# EAGLE library part FMC-HPC400-FPGA (library samtec-fmc)
ASP-134488-01 FMC Connector, lead free, (HPC), 400 I/O, male 10 mm ASP-134602-01 FMC Connector, lead free, (HPC), 400 I/O, male 8.50 mm
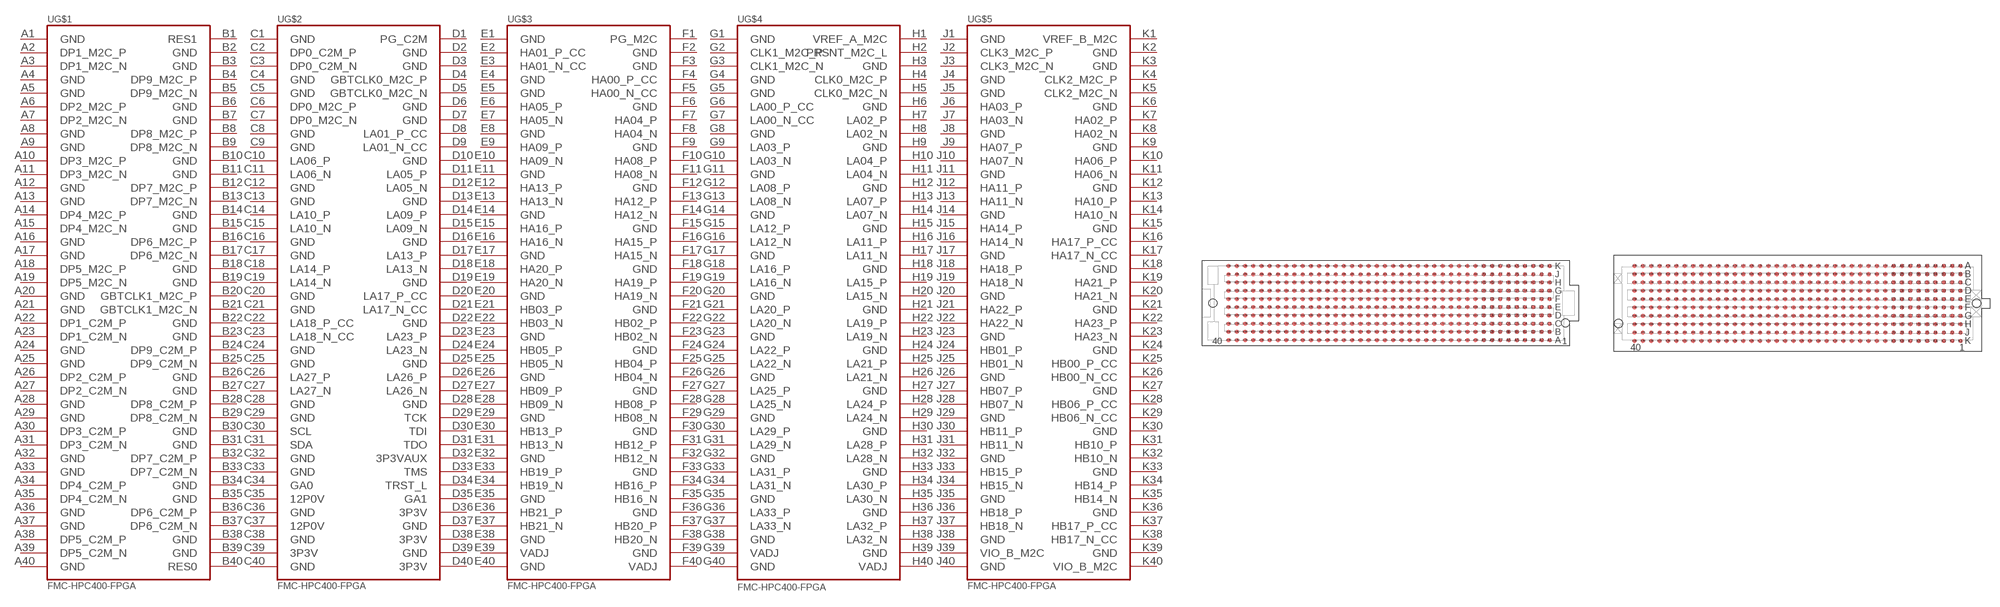
[diagram p2: symbol with the pads of ASP-134486-01; footprints ASP-134486-01, ASP-134602-01]

Designator prefix -; gates G$1=BANK-80P-AB-FPGA G$2=BANK-80P-CD-FPGA G$3=BANK-80P-EF-FPGA G$4=BANK-80P-GH-FPGA G$5=BANK-80P-JK-FPGA

## FMC-HPC400-FPGA-FEMALE  [ASP-134486-01]
A1  G$1:GND
A2  G$1:DP1_M2C_P
A3  G$1:DP1_M2C_N
A4  G$1:GND
A5  G$1:GND
A6  G$1:DP2_M2C_P
A7  G$1:DP2_M2C_N
A8  G$1:GND
A9  G$1:GND
A10  G$1:DP3_M2C_P
A11  G$1:DP3_M2C_N
A12  G$1:GND
A13  G$1:GND
A14  G$1:DP4_M2C_P
A15  G$1:DP4_M2C_N
A16  G$1:GND
A17  G$1:GND
A18  G$1:DP5_M2C_P
A19  G$1:DP5_M2C_N
A20  G$1:GND
A21  G$1:GND
A22  G$1:DP1_C2M_P
A23  G$1:DP1_C2M_N
A24  G$1:GND
A25  G$1:GND
A26  G$1:DP2_C2M_P
A27  G$1:DP2_C2M_N
A28  G$1:GND
A29  G$1:GND
A30  G$1:DP3_C2M_P
A31  G$1:DP3_C2M_N
A32  G$1:GND
A33  G$1:GND
A34  G$1:DP4_C2M_P
A35  G$1:DP4_C2M_N
A36  G$1:GND
A37  G$1:GND
A38  G$1:DP5_C2M_P
A39  G$1:DP5_C2M_N
A40  G$1:GND
B1  G$1:RES1
B2  G$1:GND
B3  G$1:GND
B4  G$1:DP9_M2C_P
B5  G$1:DP9_M2C_N
B6  G$1:GND
B7  G$1:GND
B8  G$1:DP8_M2C_P
B9  G$1:DP8_M2C_N
B10  G$1:GND
B11  G$1:GND
B12  G$1:DP7_M2C_P
B13  G$1:DP7_M2C_N
B14  G$1:GND
B15  G$1:GND
B16  G$1:DP6_M2C_P
B17  G$1:DP6_M2C_N
B18  G$1:GND
B19  G$1:GND
B20  G$1:GBTCLK1_M2C_P
B21  G$1:GBTCLK1_M2C_N
B22  G$1:GND
B23  G$1:GND
B24  G$1:DP9_C2M_P
B25  G$1:DP9_C2M_N
B26  G$1:GND
B27  G$1:GND
B28  G$1:DP8_C2M_P
B29  G$1:DP8_C2M_N
B30  G$1:GND
B31  G$1:GND
B32  G$1:DP7_C2M_P
B33  G$1:DP7_C2M_N
B34  G$1:GND
B35  G$1:GND
B36  G$1:DP6_C2M_P
B37  G$1:DP6_C2M_N
B38  G$1:GND
B39  G$1:GND
B40  G$1:RES0
C1  G$2:GND
C2  G$2:DP0_C2M_P
C3  G$2:DP0_C2M_N
C4  G$2:GND
C5  G$2:GND
C6  G$2:DP0_M2C_P
C7  G$2:DP0_M2C_N
C8  G$2:GND
C9  G$2:GND
C10  G$2:LA06_P
C11  G$2:LA06_N
C12  G$2:GND
C13  G$2:GND
C14  G$2:LA10_P
C15  G$2:LA10_N
C16  G$2:GND
C17  G$2:GND
C18  G$2:LA14_P
C19  G$2:LA14_N
C20  G$2:GND
C21  G$2:GND
C22  G$2:LA18_P_CC
C23  G$2:LA18_N_CC
C24  G$2:GND
C25  G$2:GND
C26  G$2:LA27_P
C27  G$2:LA27_N
C28  G$2:GND
C29  G$2:GND
C30  G$2:SCL
C31  G$2:SDA
C32  G$2:GND
C33  G$2:GND
C34  G$2:GA0
C35  G$2:12P0V
C36  G$2:GND
C37  G$2:12P0V
C38  G$2:GND
C39  G$2:3P3V
C40  G$2:GND
D1  G$2:PG_C2M
D2  G$2:GND
D3  G$2:GND
D4  G$2:GBTCLK0_M2C_P
D5  G$2:GBTCLK0_M2C_N
D6  G$2:GND
D7  G$2:GND
D8  G$2:LA01_P_CC
D9  G$2:LA01_N_CC
D10  G$2:GND
D11  G$2:LA05_P
D12  G$2:LA05_N
D13  G$2:GND
D14  G$2:LA09_P
D15  G$2:LA09_N
D16  G$2:GND
D17  G$2:LA13_P
D18  G$2:LA13_N
D19  G$2:GND
D20  G$2:LA17_P_CC
D21  G$2:LA17_N_CC
D22  G$2:GND
D23  G$2:LA23_P
D24  G$2:LA23_N
D25  G$2:GND
D26  G$2:LA26_P
D27  G$2:LA26_N
D28  G$2:GND
D29  G$2:TCK
D30  G$2:TDI
D31  G$2:TDO
D32  G$2:3P3VAUX
D33  G$2:TMS
D34  G$2:TRST_L
D35  G$2:GA1
D36  G$2:3P3V
D37  G$2:GND
D38  G$2:3P3V
D39  G$2:GND
D40  G$2:3P3V
E1  G$3:GND
E2  G$3:HA01_P_CC
E3  G$3:HA01_N_CC
E4  G$3:GND
E5  G$3:GND
E6  G$3:HA05_P
E7  G$3:HA05_N
E8  G$3:GND
E9  G$3:HA09_P
E10  G$3:HA09_N
E11  G$3:GND
E12  G$3:HA13_P
E13  G$3:HA13_N
E14  G$3:GND
E15  G$3:HA16_P
E16  G$3:HA16_N
E17  G$3:GND
E18  G$3:HA20_P
E19  G$3:HA20_N
E20  G$3:GND
E21  G$3:HB03_P
E22  G$3:HB03_N
E23  G$3:GND
E24  G$3:HB05_P
E25  G$3:HB05_N
E26  G$3:GND
E27  G$3:HB09_P
E28  G$3:HB09_N
E29  G$3:GND
E30  G$3:HB13_P
E31  G$3:HB13_N
E32  G$3:GND
E33  G$3:HB19_P
E34  G$3:HB19_N
E35  G$3:GND
E36  G$3:HB21_P
E37  G$3:HB21_N
E38  G$3:GND
E39  G$3:VADJ
E40  G$3:GND
F1  G$3:PG_M2C
F2  G$3:GND
F3  G$3:GND
F4  G$3:HA00_P_CC
F5  G$3:HA00_N_CC
F6  G$3:GND
F7  G$3:HA04_P
F8  G$3:HA04_N
F9  G$3:GND
F10  G$3:HA08_P
F11  G$3:HA08_N
F12  G$3:GND
F13  G$3:HA12_P
F14  G$3:HA12_N
F15  G$3:GND
F16  G$3:HA15_P
F17  G$3:HA15_N
F18  G$3:GND
F19  G$3:HA19_P
F20  G$3:HA19_N
F21  G$3:GND
F22  G$3:HB02_P
F23  G$3:HB02_N
F24  G$3:GND
F25  G$3:HB04_P
F26  G$3:HB04_N
F27  G$3:GND
F28  G$3:HB08_P
F29  G$3:HB08_N
F30  G$3:GND
F31  G$3:HB12_P
F32  G$3:HB12_N
F33  G$3:GND
F34  G$3:HB16_P
F35  G$3:HB16_N
F36  G$3:GND
F37  G$3:HB20_P
F38  G$3:HB20_N
F39  G$3:GND
F40  G$3:VADJ
G1  G$4:GND
G2  G$4:CLK1_M2C_P
G3  G$4:CLK1_M2C_N
G4  G$4:GND
G5  G$4:GND
G6  G$4:LA00_P_CC
G7  G$4:LA00_N_CC
G8  G$4:GND
G9  G$4:LA03_P
G10  G$4:LA03_N
G11  G$4:GND
G12  G$4:LA08_P
G13  G$4:LA08_N
G14  G$4:GND
G15  G$4:LA12_P
G16  G$4:LA12_N
G17  G$4:GND
G18  G$4:LA16_P
G19  G$4:LA16_N
G20  G$4:GND
G21  G$4:LA20_P
G22  G$4:LA20_N
G23  G$4:GND
G24  G$4:LA22_P
G25  G$4:LA22_N
G26  G$4:GND
G27  G$4:LA25_P
G28  G$4:LA25_N
G29  G$4:GND
G30  G$4:LA29_P
G31  G$4:LA29_N
G32  G$4:GND
G33  G$4:LA31_P
G34  G$4:LA31_N
G35  G$4:GND
G36  G$4:LA33_P
G37  G$4:LA33_N
G38  G$4:GND
G39  G$4:VADJ
G40  G$4:GND
H1  G$4:VREF_A_M2C
H2  G$4:PRSNT_M2C_L
H3  G$4:GND
H4  G$4:CLK0_M2C_P
H5  G$4:CLK0_M2C_N
H6  G$4:GND
H7  G$4:LA02_P
H8  G$4:LA02_N
H9  G$4:GND
H10  G$4:LA04_P
H11  G$4:LA04_N
H12  G$4:GND
H13  G$4:LA07_P
H14  G$4:LA07_N
H15  G$4:GND
H16  G$4:LA11_P
H17  G$4:LA11_N
H18  G$4:GND
H19  G$4:LA15_P
H20  G$4:LA15_N
H21  G$4:GND
H22  G$4:LA19_P
H23  G$4:LA19_N
H24  G$4:GND
H25  G$4:LA21_P
H26  G$4:LA21_N
H27  G$4:GND
H28  G$4:LA24_P
H29  G$4:LA24_N
H30  G$4:GND
H31  G$4:LA28_P
H32  G$4:LA28_N
H33  G$4:GND
H34  G$4:LA30_P
H35  G$4:LA30_N
H36  G$4:GND
H37  G$4:LA32_P
H38  G$4:LA32_N
H39  G$4:GND
H40  G$4:VADJ
J1  G$5:GND
J2  G$5:CLK3_M2C_P
J3  G$5:CLK3_M2C_N
J4  G$5:GND
J5  G$5:GND
J6  G$5:HA03_P
J7  G$5:HA03_N
J8  G$5:GND
J9  G$5:HA07_P
J10  G$5:HA07_N
J11  G$5:GND
J12  G$5:HA11_P
J13  G$5:HA11_N
J14  G$5:GND
J15  G$5:HA14_P
J16  G$5:HA14_N
J17  G$5:GND
J18  G$5:HA18_P
J19  G$5:HA18_N
J20  G$5:GND
J21  G$5:HA22_P
J22  G$5:HA22_N
J23  G$5:GND
J24  G$5:HB01_P
J25  G$5:HB01_N
J26  G$5:GND
J27  G$5:HB07_P
J28  G$5:HB07_N
J29  G$5:GND
J30  G$5:HB11_P
J31  G$5:HB11_N
J32  G$5:GND
J33  G$5:HB15_P
J34  G$5:HB15_N
J35  G$5:GND
J36  G$5:HB18_P
J37  G$5:HB18_N
J38  G$5:GND
J39  G$5:VIO_B_M2C
J40  G$5:GND
K1  G$5:VREF_B_M2C
K2  G$5:GND
K3  G$5:GND
K4  G$5:CLK2_M2C_P
K5  G$5:CLK2_M2C_N
K6  G$5:GND
K7  G$5:HA02_P
K8  G$5:HA02_N
K9  G$5:GND
K10  G$5:HA06_P
K11  G$5:HA06_N
K12  G$5:GND
K13  G$5:HA10_P
K14  G$5:HA10_N
K15  G$5:GND
K16  G$5:HA17_P_CC
K17  G$5:HA17_N_CC
K18  G$5:GND
K19  G$5:HA21_P
K20  G$5:HA21_N
K21  G$5:GND
K22  G$5:HA23_P
K23  G$5:HA23_N
K24  G$5:GND
K25  G$5:HB00_P_CC
K26  G$5:HB00_N_CC
K27  G$5:GND
K28  G$5:HB06_P_CC
K29  G$5:HB06_N_CC
K30  G$5:GND
K31  G$5:HB10_P
K32  G$5:HB10_N
K33  G$5:GND
K34  G$5:HB14_P
K35  G$5:HB14_N
K36  G$5:GND
K37  G$5:HB17_P_CC
K38  G$5:HB17_N_CC
K39  G$5:GND
K40  G$5:VIO_B_M2C

## FMC-HPC400-FPGA-MALE  [ASP-134602-01]
Pads as for ASP-134486-01

## Footprint ASP-134486-01 (pad centres in mm)
smd 0.635 x 0.635: A1 24.765,-5.715; A2 23.495,-5.715; A3 22.225,-5.715; A4 20.955,-5.715; A5 19.685,-5.715; A6 18.415,-5.715; A7 17.145,-5.715; A8 15.875,-5.715; A9 14.605,-5.715; A10 13.335,-5.715; A11 12.065,-5.715; A12 10.795,-5.715; A13 9.525,-5.715; A14 8.255,-5.715; A15 6.985,-5.715; A16 5.715,-5.715; A17 4.445,-5.715; A18 3.175,-5.715; A19 1.905,-5.715; A20 0.635,-5.715; A21 -0.635,-5.715; A22 -1.905,-5.715; A23 -3.175,-5.715; A24 -4.445,-5.715; A25 -5.715,-5.715; A26 -6.985,-5.715; A27 -8.255,-5.715; A28 -9.525,-5.715; A29 -10.795,-5.715; A30 -12.065,-5.715; A31 -13.335,-5.715; A32 -14.605,-5.715; A33 -15.875,-5.715; A34 -17.145,-5.715; A35 -18.415,-5.715; A36 -19.685,-5.715; A37 -20.955,-5.715; A38 -22.225,-5.715; A39 -23.495,-5.715; A40 -24.765,-5.715; B1 24.765,-4.445; B2 23.495,-4.445; B3 22.225,-4.445; B4 20.955,-4.445; B5 19.685,-4.445; B6 18.415,-4.445; B7 17.145,-4.445; B8 15.875,-4.445; B9 14.605,-4.445; B10 13.335,-4.445; B11 12.065,-4.445; B12 10.795,-4.445; B13 9.525,-4.445; B14 8.255,-4.445; B15 6.985,-4.445; B16 5.715,-4.445; B17 4.445,-4.445; B18 3.175,-4.445; B19 1.905,-4.445; B20 0.635,-4.445; B21 -0.635,-4.445; B22 -1.905,-4.445; B23 -3.175,-4.445; B24 -4.445,-4.445; B25 -5.715,-4.445; B26 -6.985,-4.445; B27 -8.255,-4.445; B28 -9.525,-4.445; B29 -10.795,-4.445; B30 -12.065,-4.445; B31 -13.335,-4.445; B32 -14.605,-4.445; B33 -15.875,-4.445; B34 -17.145,-4.445; B35 -18.415,-4.445; B36 -19.685,-4.445; B37 -20.955,-4.445; B38 -22.225,-4.445; B39 -23.495,-4.445; B40 -24.765,-4.445; C1 24.765,-3.175; C2 23.495,-3.175; C3 22.225,-3.175; C4 20.955,-3.175; C5 19.685,-3.175; C6 18.415,-3.175; C7 17.145,-3.175; C8 15.875,-3.175; C9 14.605,-3.175; C10 13.335,-3.175; C11 12.065,-3.175; C12 10.795,-3.175; C13 9.525,-3.175; C14 8.255,-3.175; C15 6.985,-3.175; C16 5.715,-3.175; C17 4.445,-3.175; C18 3.175,-3.175; C19 1.905,-3.175; C20 0.635,-3.175; C21 -0.635,-3.175; C22 -1.905,-3.175; C23 -3.175,-3.175; C24 -4.445,-3.175; C25 -5.715,-3.175; C26 -6.985,-3.175; C27 -8.255,-3.175; C28 -9.525,-3.175; C29 -10.795,-3.175; C30 -12.065,-3.175; C31 -13.335,-3.175; C32 -14.605,-3.175; C33 -15.875,-3.175; C34 -17.145,-3.175; C35 -18.415,-3.175; C36 -19.685,-3.175; C37 -20.955,-3.175; C38 -22.225,-3.175; C39 -23.495,-3.175; C40 -24.765,-3.175; D1 24.765,-1.905; D2 23.495,-1.905; D3 22.225,-1.905; D4 20.955,-1.905; D5 19.685,-1.905; D6 18.415,-1.905; D7 17.145,-1.905; D8 15.875,-1.905; D9 14.605,-1.905; D10 13.335,-1.905; D11 12.065,-1.905; D12 10.795,-1.905; D13 9.525,-1.905; D14 8.255,-1.905; D15 6.985,-1.905; D16 5.715,-1.905; D17 4.445,-1.905; D18 3.175,-1.905; D19 1.905,-1.905; D20 0.635,-1.905; D21 -0.635,-1.905; D22 -1.905,-1.905; D23 -3.175,-1.905; D24 -4.445,-1.905; D25 -5.715,-1.905; D26 -6.985,-1.905; D27 -8.255,-1.905; D28 -9.525,-1.905; D29 -10.795,-1.905; D30 -12.065,-1.905; D31 -13.335,-1.905; D32 -14.605,-1.905; D33 -15.875,-1.905; D34 -17.145,-1.905; D35 -18.415,-1.905; D36 -19.685,-1.905; D37 -20.955,-1.905; D38 -22.225,-1.905; D39 -23.495,-1.905; D40 -24.765,-1.905; E1 24.765,-0.635; E2 23.495,-0.635; E3 22.225,-0.635; E4 20.955,-0.635; E5 19.685,-0.635; E6 18.415,-0.635; E7 17.145,-0.635; E8 15.875,-0.635; E9 14.605,-0.635; E10 13.335,-0.635; E11 12.065,-0.635; E12 10.795,-0.635; E13 9.525,-0.635; E14 8.255,-0.635; E15 6.985,-0.635; E16 5.715,-0.635; E17 4.445,-0.635; E18 3.175,-0.635; E19 1.905,-0.635; E20 0.635,-0.635; E21 -0.635,-0.635; E22 -1.905,-0.635; E23 -3.175,-0.635; E24 -4.445,-0.635; E25 -5.715,-0.635; E26 -6.985,-0.635; E27 -8.255,-0.635; E28 -9.525,-0.635; E29 -10.795,-0.635; E30 -12.065,-0.635; E31 -13.335,-0.635; E32 -14.605,-0.635; E33 -15.875,-0.635; E34 -17.145,-0.635; E35 -18.415,-0.635; E36 -19.685,-0.635; E37 -20.955,-0.635; E38 -22.225,-0.635; E39 -23.495,-0.635; E40 -24.765,-0.635; F1 24.765,0.635; F2 23.495,0.635; F3 22.225,0.635; F4 20.955,0.635; F5 19.685,0.635; F6 18.415,0.635; F7 17.145,0.635; F8 15.875,0.635; F9 14.605,0.635; F10 13.335,0.635; F11 12.065,0.635; F12 10.795,0.635; F13 9.525,0.635; F14 8.255,0.635; F15 6.985,0.635; F16 5.715,0.635; F17 4.445,0.635; F18 3.175,0.635; F19 1.905,0.635; F20 0.635,0.635; F21 -0.635,0.635; F22 -1.905,0.635; F23 -3.175,0.635; F24 -4.445,0.635; F25 -5.715,0.635; F26 -6.985,0.635; F27 -8.255,0.635; F28 -9.525,0.635; F29 -10.795,0.635; F30 -12.065,0.635; F31 -13.335,0.635; F32 -14.605,0.635; F33 -15.875,0.635; F34 -17.145,0.635; F35 -18.415,0.635; F36 -19.685,0.635; F37 -20.955,0.635; F38 -22.225,0.635; F39 -23.495,0.635; F40 -24.765,0.635; G1 24.765,1.905; G2 23.495,1.905; G3 22.225,1.905; G4 20.955,1.905; G5 19.685,1.905; G6 18.415,1.905; G7 17.145,1.905; G8 15.875,1.905; G9 14.605,1.905; G10 13.335,1.905; G11 12.065,1.905; G12 10.795,1.905; G13 9.525,1.905; G14 8.255,1.905; G15 6.985,1.905; G16 5.715,1.905; G17 4.445,1.905; G18 3.175,1.905; G19 1.905,1.905; G20 0.635,1.905; G21 -0.635,1.905; G22 -1.905,1.905; G23 -3.175,1.905; G24 -4.445,1.905; G25 -5.715,1.905; G26 -6.985,1.905; G27 -8.255,1.905; G28 -9.525,1.905; G29 -10.795,1.905; G30 -12.065,1.905; G31 -13.335,1.905; G32 -14.605,1.905; G33 -15.875,1.905; G34 -17.145,1.905; G35 -18.415,1.905; G36 -19.685,1.905; G37 -20.955,1.905; G38 -22.225,1.905; G39 -23.495,1.905; G40 -24.765,1.905; H1 24.765,3.175; H2 23.495,3.175; H3 22.225,3.175; H4 20.955,3.175; H5 19.685,3.175; H6 18.415,3.175; H7 17.145,3.175; H8 15.875,3.175; H9 14.605,3.175; H10 13.335,3.175; H11 12.065,3.175; H12 10.795,3.175; H13 9.525,3.175; H14 8.255,3.175; H15 6.985,3.175; H16 5.715,3.175; H17 4.445,3.175; H18 3.175,3.175; H19 1.905,3.175; H20 0.635,3.175; H21 -0.635,3.175; H22 -1.905,3.175; H23 -3.175,3.175; H24 -4.445,3.175; H25 -5.715,3.175; H26 -6.985,3.175; H27 -8.255,3.175; H28 -9.525,3.175; H29 -10.795,3.175; H30 -12.065,3.175; H31 -13.335,3.175; H32 -14.605,3.175; H33 -15.875,3.175; H34 -17.145,3.175; H35 -18.415,3.175; H36 -19.685,3.175; H37 -20.955,3.175; H38 -22.225,3.175; H39 -23.495,3.175; H40 -24.765,3.175; J1 24.765,4.445; J2 23.495,4.445; J3 22.225,4.445; J4 20.955,4.445; J5 19.685,4.445; J6 18.415,4.445; J7 17.145,4.445; J8 15.875,4.445; J9 14.605,4.445; J10 13.335,4.445; J11 12.065,4.445; J12 10.795,4.445; J13 9.525,4.445; J14 8.255,4.445; J15 6.985,4.445; J16 5.715,4.445; J17 4.445,4.445; J18 3.175,4.445; J19 1.905,4.445; J20 0.635,4.445; J21 -0.635,4.445; J22 -1.905,4.445; J23 -3.175,4.445; J24 -4.445,4.445; J25 -5.715,4.445; J26 -6.985,4.445; J27 -8.255,4.445; J28 -9.525,4.445; J29 -10.795,4.445; J30 -12.065,4.445; J31 -13.335,4.445; J32 -14.605,4.445; J33 -15.875,4.445; J34 -17.145,4.445; J35 -18.415,4.445; J36 -19.685,4.445; J37 -20.955,4.445; J38 -22.225,4.445; J39 -23.495,4.445; J40 -24.765,4.445; K1 24.765,5.715; K2 23.495,5.715; K3 22.225,5.715; K4 20.955,5.715; K5 19.685,5.715; K6 18.415,5.715; K7 17.145,5.715; K8 15.875,5.715; K9 14.605,5.715; K10 13.335,5.715; K11 12.065,5.715; K12 10.795,5.715; K13 9.525,5.715; K14 8.255,5.715; K15 6.985,5.715; K16 5.715,5.715; K17 4.445,5.715; K18 3.175,5.715; K19 1.905,5.715; K20 0.635,5.715; K21 -0.635,5.715; K22 -1.905,5.715; K23 -3.175,5.715; K24 -4.445,5.715; K25 -5.715,5.715; K26 -6.985,5.715; K27 -8.255,5.715; K28 -9.525,5.715; K29 -10.795,5.715; K30 -12.065,5.715; K31 -13.335,5.715; K32 -14.605,5.715; K33 -15.875,5.715; K34 -17.145,5.715; K35 -18.415,5.715; K36 -19.685,5.715; K37 -20.955,5.715; K38 -22.225,5.715; K39 -23.495,5.715; K40 -24.765,5.715
hole 1.27 at -27.191,0
hole 1.27 at 27.191,-3.048

## Footprint ASP-134602-01 (pad centres in mm)
smd 0.635 x 0.635: A1 24.765,5.715; A2 23.495,5.715; A3 22.225,5.715; A4 20.955,5.715; A5 19.685,5.715; A6 18.415,5.715; A7 17.145,5.715; A8 15.875,5.715; A9 14.605,5.715; A10 13.335,5.715; A11 12.065,5.715; A12 10.795,5.715; A13 9.525,5.715; A14 8.255,5.715; A15 6.985,5.715; A16 5.715,5.715; A17 4.445,5.715; A18 3.175,5.715; A19 1.905,5.715; A20 0.635,5.715; A21 -0.635,5.715; A22 -1.905,5.715; A23 -3.175,5.715; A24 -4.445,5.715; A25 -5.715,5.715; A26 -6.985,5.715; A27 -8.255,5.715; A28 -9.525,5.715; A29 -10.795,5.715; A30 -12.065,5.715; A31 -13.335,5.715; A32 -14.605,5.715; A33 -15.875,5.715; A34 -17.145,5.715; A35 -18.415,5.715; A36 -19.685,5.715; A37 -20.955,5.715; A38 -22.225,5.715; A39 -23.495,5.715; A40 -24.765,5.715; B1 24.765,4.445; B2 23.495,4.445; B3 22.225,4.445; B4 20.955,4.445; B5 19.685,4.445; B6 18.415,4.445; B7 17.145,4.445; B8 15.875,4.445; B9 14.605,4.445; B10 13.335,4.445; B11 12.065,4.445; B12 10.795,4.445; B13 9.525,4.445; B14 8.255,4.445; B15 6.985,4.445; B16 5.715,4.445; B17 4.445,4.445; B18 3.175,4.445; B19 1.905,4.445; B20 0.635,4.445; B21 -0.635,4.445; B22 -1.905,4.445; B23 -3.175,4.445; B24 -4.445,4.445; B25 -5.715,4.445; B26 -6.985,4.445; B27 -8.255,4.445; B28 -9.525,4.445; B29 -10.795,4.445; B30 -12.065,4.445; B31 -13.335,4.445; B32 -14.605,4.445; B33 -15.875,4.445; B34 -17.145,4.445; B35 -18.415,4.445; B36 -19.685,4.445; B37 -20.955,4.445; B38 -22.225,4.445; B39 -23.495,4.445; B40 -24.765,4.445; C1 24.765,3.175; C2 23.495,3.175; C3 22.225,3.175; C4 20.955,3.175; C5 19.685,3.175; C6 18.415,3.175; C7 17.145,3.175; C8 15.875,3.175; C9 14.605,3.175; C10 13.335,3.175; C11 12.065,3.175; C12 10.795,3.175; C13 9.525,3.175; C14 8.255,3.175; C15 6.985,3.175; C16 5.715,3.175; C17 4.445,3.175; C18 3.175,3.175; C19 1.905,3.175; C20 0.635,3.175; C21 -0.635,3.175; C22 -1.905,3.175; C23 -3.175,3.175; C24 -4.445,3.175; C25 -5.715,3.175; C26 -6.985,3.175; C27 -8.255,3.175; C28 -9.525,3.175; C29 -10.795,3.175; C30 -12.065,3.175; C31 -13.335,3.175; C32 -14.605,3.175; C33 -15.875,3.175; C34 -17.145,3.175; C35 -18.415,3.175; C36 -19.685,3.175; C37 -20.955,3.175; C38 -22.225,3.175; C39 -23.495,3.175; C40 -24.765,3.175; D1 24.765,1.905; D2 23.495,1.905; D3 22.225,1.905; D4 20.955,1.905; D5 19.685,1.905; D6 18.415,1.905; D7 17.145,1.905; D8 15.875,1.905; D9 14.605,1.905; D10 13.335,1.905; D11 12.065,1.905; D12 10.795,1.905; D13 9.525,1.905; D14 8.255,1.905; D15 6.985,1.905; D16 5.715,1.905; D17 4.445,1.905; D18 3.175,1.905; D19 1.905,1.905; D20 0.635,1.905; D21 -0.635,1.905; D22 -1.905,1.905; D23 -3.175,1.905; D24 -4.445,1.905; D25 -5.715,1.905; D26 -6.985,1.905; D27 -8.255,1.905; D28 -9.525,1.905; D29 -10.795,1.905; D30 -12.065,1.905; D31 -13.335,1.905; D32 -14.605,1.905; D33 -15.875,1.905; D34 -17.145,1.905; D35 -18.415,1.905; D36 -19.685,1.905; D37 -20.955,1.905; D38 -22.225,1.905; D39 -23.495,1.905; D40 -24.765,1.905; E1 24.765,0.635; E2 23.495,0.635; E3 22.225,0.635; E4 20.955,0.635; E5 19.685,0.635; E6 18.415,0.635; E7 17.145,0.635; E8 15.875,0.635; E9 14.605,0.635; E10 13.335,0.635; E11 12.065,0.635; E12 10.795,0.635; E13 9.525,0.635; E14 8.255,0.635; E15 6.985,0.635; E16 5.715,0.635; E17 4.445,0.635; E18 3.175,0.635; E19 1.905,0.635; E20 0.635,0.635; E21 -0.635,0.635; E22 -1.905,0.635; E23 -3.175,0.635; E24 -4.445,0.635; E25 -5.715,0.635; E26 -6.985,0.635; E27 -8.255,0.635; E28 -9.525,0.635; E29 -10.795,0.635; E30 -12.065,0.635; E31 -13.335,0.635; E32 -14.605,0.635; E33 -15.875,0.635; E34 -17.145,0.635; E35 -18.415,0.635; E36 -19.685,0.635; E37 -20.955,0.635; E38 -22.225,0.635; E39 -23.495,0.635; E40 -24.765,0.635; F1 24.765,-0.635; F2 23.495,-0.635; F3 22.225,-0.635; F4 20.955,-0.635; F5 19.685,-0.635; F6 18.415,-0.635; F7 17.145,-0.635; F8 15.875,-0.635; F9 14.605,-0.635; F10 13.335,-0.635; F11 12.065,-0.635; F12 10.795,-0.635; F13 9.525,-0.635; F14 8.255,-0.635; F15 6.985,-0.635; F16 5.715,-0.635; F17 4.445,-0.635; F18 3.175,-0.635; F19 1.905,-0.635; F20 0.635,-0.635; F21 -0.635,-0.635; F22 -1.905,-0.635; F23 -3.175,-0.635; F24 -4.445,-0.635; F25 -5.715,-0.635; F26 -6.985,-0.635; F27 -8.255,-0.635; F28 -9.525,-0.635; F29 -10.795,-0.635; F30 -12.065,-0.635; F31 -13.335,-0.635; F32 -14.605,-0.635; F33 -15.875,-0.635; F34 -17.145,-0.635; F35 -18.415,-0.635; F36 -19.685,-0.635; F37 -20.955,-0.635; F38 -22.225,-0.635; F39 -23.495,-0.635; F40 -24.765,-0.635; G1 24.765,-1.905; G2 23.495,-1.905; G3 22.225,-1.905; G4 20.955,-1.905; G5 19.685,-1.905; G6 18.415,-1.905; G7 17.145,-1.905; G8 15.875,-1.905; G9 14.605,-1.905; G10 13.335,-1.905; G11 12.065,-1.905; G12 10.795,-1.905; G13 9.525,-1.905; G14 8.255,-1.905; G15 6.985,-1.905; G16 5.715,-1.905; G17 4.445,-1.905; G18 3.175,-1.905; G19 1.905,-1.905; G20 0.635,-1.905; G21 -0.635,-1.905; G22 -1.905,-1.905; G23 -3.175,-1.905; G24 -4.445,-1.905; G25 -5.715,-1.905; G26 -6.985,-1.905; G27 -8.255,-1.905; G28 -9.525,-1.905; G29 -10.795,-1.905; G30 -12.065,-1.905; G31 -13.335,-1.905; G32 -14.605,-1.905; G33 -15.875,-1.905; G34 -17.145,-1.905; G35 -18.415,-1.905; G36 -19.685,-1.905; G37 -20.955,-1.905; G38 -22.225,-1.905; G39 -23.495,-1.905; G40 -24.765,-1.905; H1 24.765,-3.175; H2 23.495,-3.175; H3 22.225,-3.175; H4 20.955,-3.175; H5 19.685,-3.175; H6 18.415,-3.175; H7 17.145,-3.175; H8 15.875,-3.175; H9 14.605,-3.175; H10 13.335,-3.175; H11 12.065,-3.175; H12 10.795,-3.175; H13 9.525,-3.175; H14 8.255,-3.175; H15 6.985,-3.175; H16 5.715,-3.175; H17 4.445,-3.175; H18 3.175,-3.175; H19 1.905,-3.175; H20 0.635,-3.175; H21 -0.635,-3.175; H22 -1.905,-3.175; H23 -3.175,-3.175; H24 -4.445,-3.175; H25 -5.715,-3.175; H26 -6.985,-3.175; H27 -8.255,-3.175; H28 -9.525,-3.175; H29 -10.795,-3.175; H30 -12.065,-3.175; H31 -13.335,-3.175; H32 -14.605,-3.175; H33 -15.875,-3.175; H34 -17.145,-3.175; H35 -18.415,-3.175; H36 -19.685,-3.175; H37 -20.955,-3.175; H38 -22.225,-3.175; H39 -23.495,-3.175; H40 -24.765,-3.175; J1 24.765,-4.445; J2 23.495,-4.445; J3 22.225,-4.445; J4 20.955,-4.445; J5 19.685,-4.445; J6 18.415,-4.445; J7 17.145,-4.445; J8 15.875,-4.445; J9 14.605,-4.445; J10 13.335,-4.445; J11 12.065,-4.445; J12 10.795,-4.445; J13 9.525,-4.445; J14 8.255,-4.445; J15 6.985,-4.445; J16 5.715,-4.445; J17 4.445,-4.445; J18 3.175,-4.445; J19 1.905,-4.445; J20 0.635,-4.445; J21 -0.635,-4.445; J22 -1.905,-4.445; J23 -3.175,-4.445; J24 -4.445,-4.445; J25 -5.715,-4.445; J26 -6.985,-4.445; J27 -8.255,-4.445; J28 -9.525,-4.445; J29 -10.795,-4.445; J30 -12.065,-4.445; J31 -13.335,-4.445; J32 -14.605,-4.445; J33 -15.875,-4.445; J34 -17.145,-4.445; J35 -18.415,-4.445; J36 -19.685,-4.445; J37 -20.955,-4.445; J38 -22.225,-4.445; J39 -23.495,-4.445; J40 -24.765,-4.445; K1 24.765,-5.715; K2 23.495,-5.715; K3 22.225,-5.715; K4 20.955,-5.715; K5 19.685,-5.715; K6 18.415,-5.715; K7 17.145,-5.715; K8 15.875,-5.715; K9 14.605,-5.715; K10 13.335,-5.715; K11 12.065,-5.715; K12 10.795,-5.715; K13 9.525,-5.715; K14 8.255,-5.715; K15 6.985,-5.715; K16 5.715,-5.715; K17 4.445,-5.715; K18 3.175,-5.715; K19 1.905,-5.715; K20 0.635,-5.715; K21 -0.635,-5.715; K22 -1.905,-5.715; K23 -3.175,-5.715; K24 -4.445,-5.715; K25 -5.715,-5.715; K26 -6.985,-5.715; K27 -8.255,-5.715; K28 -9.525,-5.715; K29 -10.795,-5.715; K30 -12.065,-5.715; K31 -13.335,-5.715; K32 -14.605,-5.715; K33 -15.875,-5.715; K34 -17.145,-5.715; K35 -18.415,-5.715; K36 -19.685,-5.715; K37 -20.955,-5.715; K38 -22.225,-5.715; K39 -23.495,-5.715; K40 -24.765,-5.715
hole 1.27 at 27.191,0
hole 1.27 at -27.191,-3.048